# Altium schematic symbol library 47571-0001.Schlib: 1 symbol
Pins are listed as number, name and electrical type; pins without a type are passive.

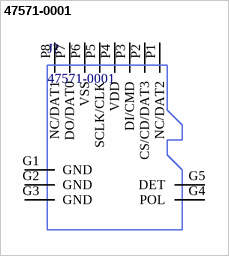
[diagram p0: symbol 47571-0001]

## 47571-0001
designator J?
J_MICRO_SD
pins: G1 GND, G2 GND, G3 GND, G4 POL, G5 DET, P1 NC/DAT2, P2 CS/CD/DAT3, P3 DI/CMD, P4 VDD, P5 SCLK/CLK, P6 VSS, P7 DO/DAT0, P8 NC/DAT1